# EAGLE library part DSPIC33FJ128MC804 (library WarthogRobotics-IC-Microcontroller)
Digital Signal Controller
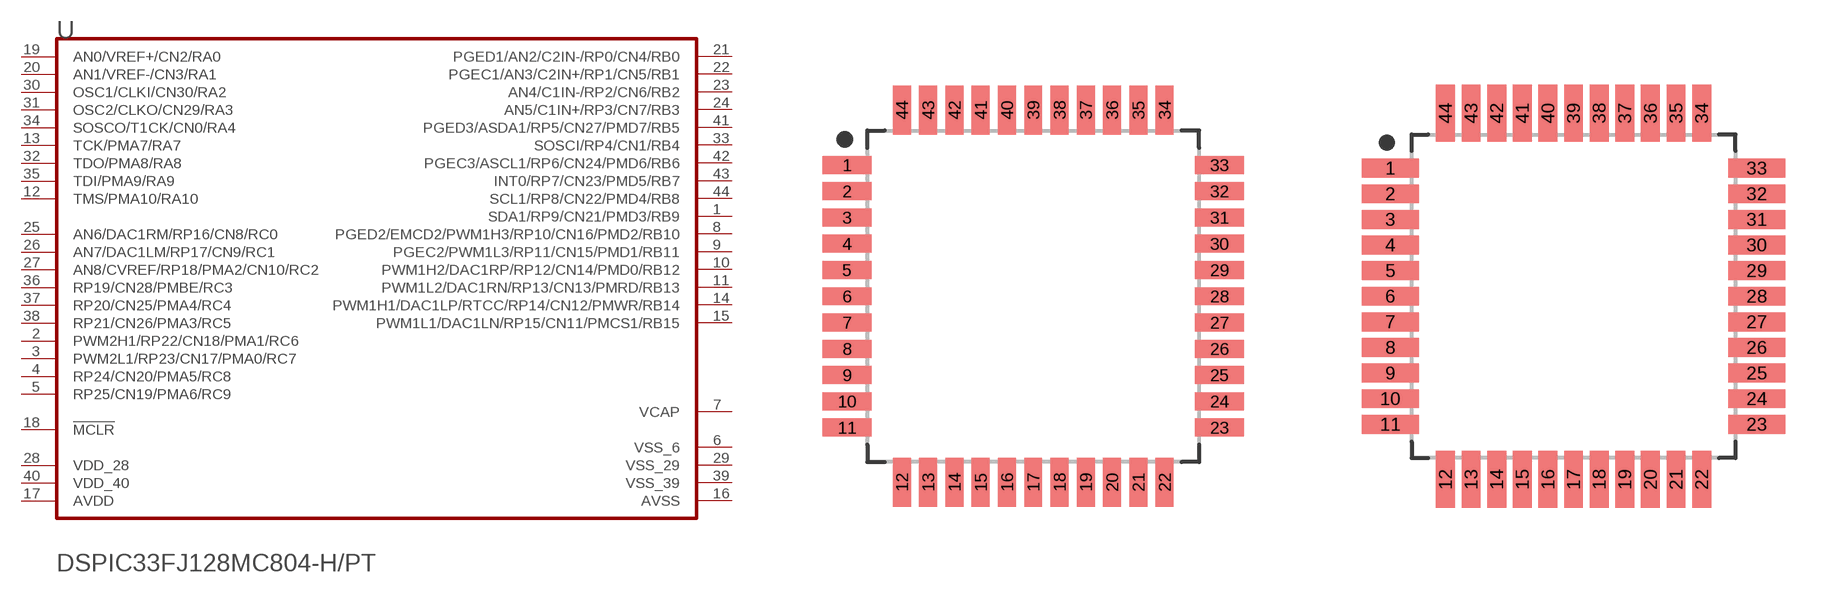
[diagram p0: symbol with the pads of TQFP44(N); footprints TQFP44(N), TQFP44(M)]

Designator prefix U

## DSPIC33FJ128MC804  [TQFP44(N)]
1  SDA1/RP9/CN21/PMD3/RB9
2  PWM2H1/RP22/CN18/PMA1/RC6
3  PWM2L1/RP23/CN17/PMA0/RC7
4  RP24/CN20/PMA5/RC8
5  RP25/CN19/PMA6/RC9
6  VSS_6
7  VCAP
8  PGED2/EMCD2/PWM1H3/RP10/CN16/PMD2/RB10
9  PGEC2/PWM1L3/RP11/CN15/PMD1/RB11
10  PWM1H2/DAC1RP/RP12/CN14/PMD0/RB12
11  PWM1L2/DAC1RN/RP13/CN13/PMRD/RB13
12  TMS/PMA10/RA10
13  TCK/PMA7/RA7
14  PWM1H1/DAC1LP/RTCC/RP14/CN12/PMWR/RB14
15  PWM1L1/DAC1LN/RP15/CN11/PMCS1/RB15
16  AVSS
17  AVDD
18  !MCLR!
19  AN0/VREF+/CN2/RA0
20  AN1/VREF-/CN3/RA1
21  PGED1/AN2/C2IN-/RP0/CN4/RB0
22  PGEC1/AN3/C2IN+/RP1/CN5/RB1
23  AN4/C1IN-/RP2/CN6/RB2
24  AN5/C1IN+/RP3/CN7/RB3
25  AN6/DAC1RM/RP16/CN8/RC0
26  AN7/DAC1LM/RP17/CN9/RC1
27  AN8/CVREF/RP18/PMA2/CN10/RC2
28  VDD_28
29  VSS_29
30  OSC1/CLKI/CN30/RA2
31  OSC2/CLKO/CN29/RA3
32  TDO/PMA8/RA8
33  SOSCI/RP4/CN1/RB4
34  SOSCO/T1CK/CN0/RA4
35  TDI/PMA9/RA9
36  RP19/CN28/PMBE/RC3
37  RP20/CN25/PMA4/RC4
38  RP21/CN26/PMA3/RC5
39  VSS_39
40  VDD_40
41  PGED3/ASDA1/RP5/CN27/PMD7/RB5
42  PGEC3/ASCL1/RP6/CN24/PMD6/RB6
43  INT0/RP7/CN23/PMD5/RB7
44  SCL1/RP8/CN22/PMD4/RB8

## DSPIC33FJ128MC804TQFP44(M)  [TQFP44(M)]
Pads as for TQFP44(N)

## Footprint TQFP44(N) (pad centres in mm)
44-QFP, 0.80 mm pitch, 12.00 mm span, 10.00 X 10.00 X 1.20 mm body 44-pin QFP package with 0.80 mm pitch, 12.00 mm lead span1 X 12.00 mm lead span2 with body size 10.00 X 10.00 X 1.20 mm
smd 1.488 x 0.547: 1 -5.67,4; 2 -5.67,3.2; 3 -5.67,2.4; 4 -5.67,1.6; 5 -5.67,0.8; 6 -5.67,0; 7 -5.67,-0.8; 8 -5.67,-1.6; 9 -5.67,-2.4; 10 -5.67,-3.2; 11 -5.67,-4; 23 5.67,-4; 24 5.67,-3.2; 25 5.67,-2.4; 26 5.67,-1.6; 27 5.67,-0.8; 28 5.67,0; 29 5.67,0.8; 30 5.67,1.6; 31 5.67,2.4; 32 5.67,3.2; 33 5.67,4
smd 0.547 x 1.488: 12 -4,-5.67; 13 -3.2,-5.67; 14 -2.4,-5.67; 15 -1.6,-5.67; 16 -0.8,-5.67; 17 0,-5.67; 18 0.8,-5.67; 19 1.6,-5.67; 20 2.4,-5.67; 21 3.2,-5.67; 22 4,-5.67; 34 4,5.67; 35 3.2,5.67; 36 2.4,5.67; 37 1.6,5.67; 38 0.8,5.67; 39 0,5.67; 40 -0.8,5.67; 41 -1.6,5.67; 42 -2.4,5.67; 43 -3.2,5.67; 44 -4,5.67

## Footprint TQFP44(M) (pad centres in mm)
44-QFP, 0.80 mm pitch, 12.00 mm span, 10.00 X 10.00 X 1.20 mm body 44-pin QFP package with 0.80 mm pitch, 12.00 mm lead span1 X 12.00 mm lead span2 with body size 10.00 X 10.00 X 1.20 mm
smd 1.788 x 0.587: 1 -5.72,4; 2 -5.72,3.2; 3 -5.72,2.4; 4 -5.72,1.6; 5 -5.72,0.8; 6 -5.72,0; 7 -5.72,-0.8; 8 -5.72,-1.6; 9 -5.72,-2.4; 10 -5.72,-3.2; 11 -5.72,-4; 23 5.72,-4; 24 5.72,-3.2; 25 5.72,-2.4; 26 5.72,-1.6; 27 5.72,-0.8; 28 5.72,0; 29 5.72,0.8; 30 5.72,1.6; 31 5.72,2.4; 32 5.72,3.2; 33 5.72,4
smd 0.587 x 1.788: 12 -4,-5.72; 13 -3.2,-5.72; 14 -2.4,-5.72; 15 -1.6,-5.72; 16 -0.8,-5.72; 17 0,-5.72; 18 0.8,-5.72; 19 1.6,-5.72; 20 2.4,-5.72; 21 3.2,-5.72; 22 4,-5.72; 34 4,5.72; 35 3.2,5.72; 36 2.4,5.72; 37 1.6,5.72; 38 0.8,5.72; 39 0,5.72; 40 -0.8,5.72; 41 -1.6,5.72; 42 -2.4,5.72; 43 -3.2,5.72; 44 -4,5.72